# EAGLE library part STM32F100 (library stm32)
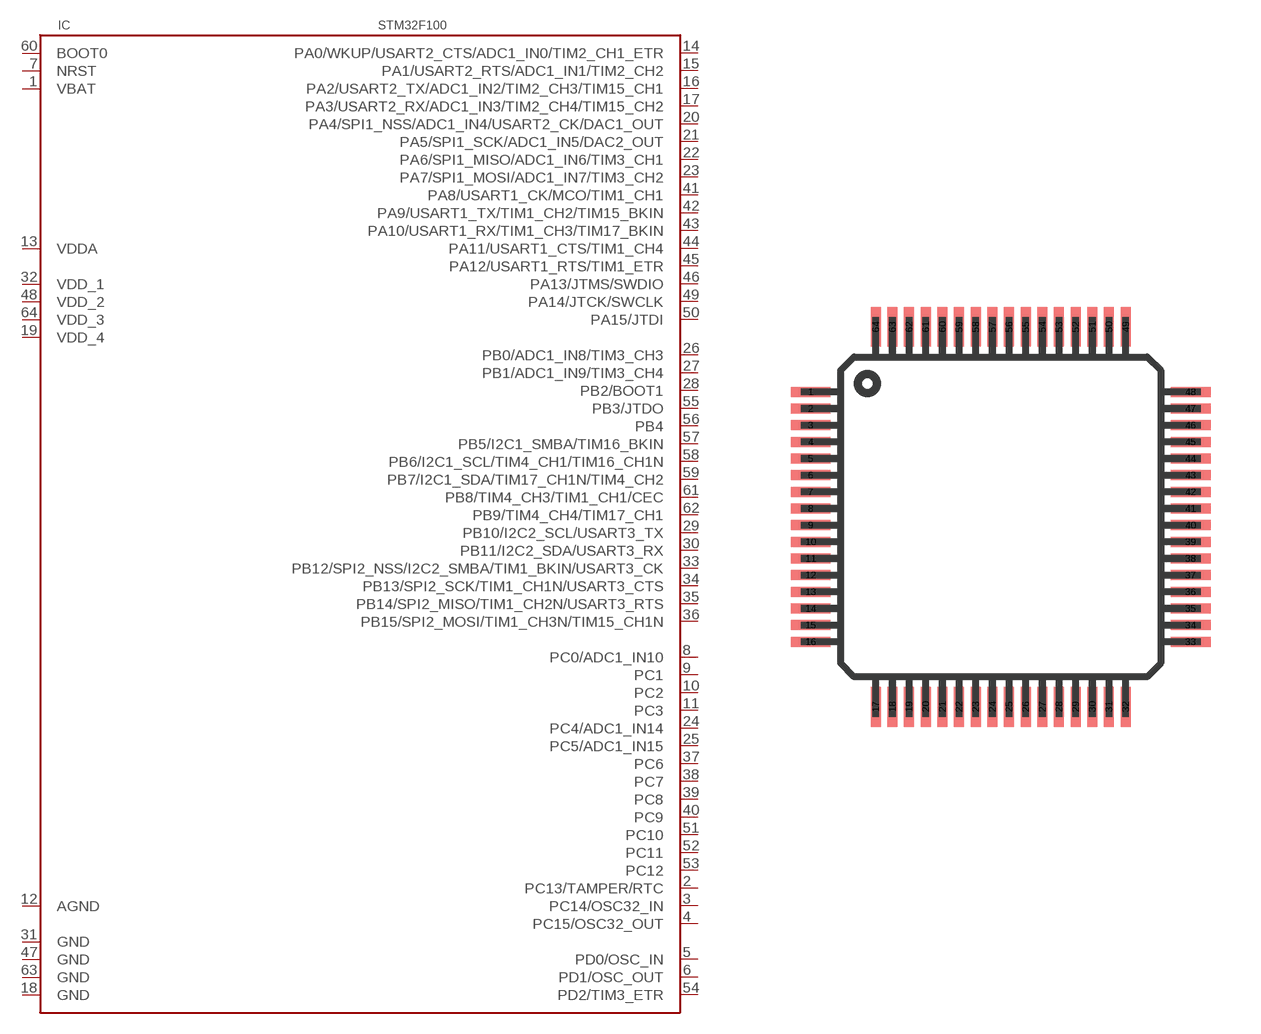
[diagram p0: symbol with the pads of TQFP64; footprint TQFP64]

Designator prefix IC

## STM32F100R4T6B  [TQFP64]
1  VBAT  pwr
2  PC13/TAMPER/RTC
3  PC14/OSC32_IN
4  PC15/OSC32_OUT
5  PD0/OSC_IN
6  PD1/OSC_OUT
7  NRST
8  PC0/ADC1_IN10
9  PC1
10  PC2
11  PC3
12  AGND  pwr
13  VDDA  pwr
14  PA0/WKUP/USART2_CTS/ADC1_IN0/TIM2_CH1_ETR
15  PA1/USART2_RTS/ADC1_IN1/TIM2_CH2
16  PA2/USART2_TX/ADC1_IN2/TIM2_CH3/TIM15_CH1
17  PA3/USART2_RX/ADC1_IN3/TIM2_CH4/TIM15_CH2
18  GND  pwr
19  VDD_4  pwr
20  PA4/SPI1_NSS/ADC1_IN4/USART2_CK/DAC1_OUT
21  PA5/SPI1_SCK/ADC1_IN5/DAC2_OUT
22  PA6/SPI1_MISO/ADC1_IN6/TIM3_CH1
23  PA7/SPI1_MOSI/ADC1_IN7/TIM3_CH2
24  PC4/ADC1_IN14
25  PC5/ADC1_IN15
26  PB0/ADC1_IN8/TIM3_CH3
27  PB1/ADC1_IN9/TIM3_CH4
28  PB2/BOOT1
29  PB10/I2C2_SCL/USART3_TX
30  PB11/I2C2_SDA/USART3_RX
31  GND  pwr
32  VDD_1  pwr
33  PB12/SPI2_NSS/I2C2_SMBA/TIM1_BKIN/USART3_CK
34  PB13/SPI2_SCK/TIM1_CH1N/USART3_CTS
35  PB14/SPI2_MISO/TIM1_CH2N/USART3_RTS
36  PB15/SPI2_MOSI/TIM1_CH3N/TIM15_CH1N
37  PC6
38  PC7
39  PC8
40  PC9
41  PA8/USART1_CK/MCO/TIM1_CH1
42  PA9/USART1_TX/TIM1_CH2/TIM15_BKIN
43  PA10/USART1_RX/TIM1_CH3/TIM17_BKIN
44  PA11/USART1_CTS/TIM1_CH4
45  PA12/USART1_RTS/TIM1_ETR
46  PA13/JTMS/SWDIO
47  GND  pwr
48  VDD_2  pwr
49  PA14/JTCK/SWCLK
50  PA15/JTDI
51  PC10
52  PC11
53  PC12
54  PD2/TIM3_ETR
55  PB3/JTDO
56  PB4
57  PB5/I2C1_SMBA/TIM16_BKIN
58  PB6/I2C1_SCL/TIM4_CH1/TIM16_CH1N
59  PB7/I2C1_SDA/TIM17_CH1N/TIM4_CH2
60  BOOT0  in
61  PB8/TIM4_CH3/TIM1_CH1/CEC
62  PB9/TIM4_CH4/TIM17_CH1
63  GND  pwr
64  VDD_3  pwr

## Footprint TQFP64 (pad centres in mm)
smd 1.2 x 0.3: 1 -5.7,3.75; 2 -5.7,3.25; 3 -5.7,2.75; 4 -5.7,2.25; 5 -5.7,1.75; 6 -5.7,1.25; 7 -5.7,0.75; 8 -5.7,0.25; 9 -5.7,-0.25; 10 -5.7,-0.75; 11 -5.7,-1.25; 12 -5.7,-1.75; 13 -5.7,-2.25; 14 -5.7,-2.75; 15 -5.7,-3.25; 16 -5.7,-3.75; 33 5.7,-3.75; 34 5.7,-3.25; 35 5.7,-2.75; 36 5.7,-2.25; 37 5.7,-1.75; 38 5.7,-1.25; 39 5.7,-0.75; 40 5.7,-0.25; 41 5.7,0.25; 42 5.7,0.75; 43 5.7,1.25; 44 5.7,1.75; 45 5.7,2.25; 46 5.7,2.75; 47 5.7,3.25; 48 5.7,3.75
smd 0.3 x 1.2: 17 -3.75,-5.7; 18 -3.25,-5.7; 19 -2.75,-5.7; 20 -2.25,-5.7; 21 -1.75,-5.7; 22 -1.25,-5.7; 23 -0.75,-5.7; 24 -0.25,-5.7; 25 0.25,-5.7; 26 0.75,-5.7; 27 1.25,-5.7; 28 1.75,-5.7; 29 2.25,-5.7; 30 2.75,-5.7; 31 3.25,-5.7; 32 3.75,-5.7; 49 3.75,5.7; 50 3.25,5.7; 51 2.75,5.7; 52 2.25,5.7; 53 1.75,5.7; 54 1.25,5.7; 55 0.75,5.7; 56 0.25,5.7; 57 -0.25,5.7; 58 -0.75,5.7; 59 -1.25,5.7; 60 -1.75,5.7; 61 -2.25,5.7; 62 -2.75,5.7; 63 -3.25,5.7; 64 -3.75,5.7